# Altium footprint library RD.PcbLib: 4 footprints
Each footprint in its own frame and in the unit in brackets; x right, y up, seen from the top. Pads: shape width x height; smd on the part's side, far side on the other; paste and mask are expansions set on the pad; w line width, h text height; cw(c..) or ccw(c..) is an arc to the next point about the centre after c.
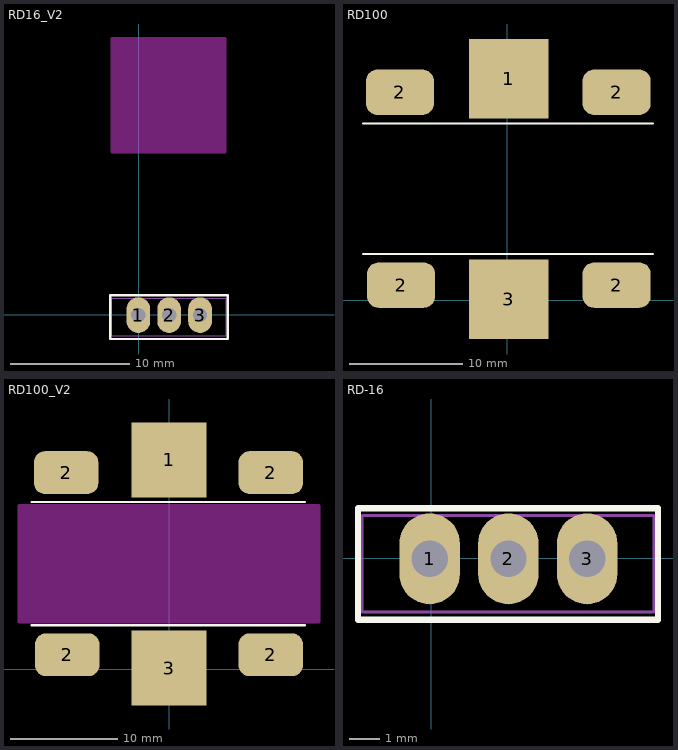
[diagram p0: the footprints below, top view; thin cyan lines are the x and y axes]

## RD16_V2 [mm]
pads (3):
  oval 2x3 hole 1.2: 1(-0.046,-0.02) 2(2.554,-0.02) 3(5.154,-0.02)
Top Overlay:
  lines w0.2: -2.413,-2.032 7.493,-2.032 7.493,1.651 -2.413,1.651 -2.413,-2.032
Keep-Out Layer:
  board cut-out: -2.25,23.25 7.25,23.25 7.25,13.75 -2.25,13.75
Keep-Out Layer:
  lines w0.3: -2.25,13.75 7.25,13.75 7.25,23.25 -2.25,23.25 -2.25,13.75
Mechanical 1:
  lines w0.1: -2.286,-1.778 -2.286,1.405 7.366,1.405 7.366,-1.778 -2.286,-1.778
3D body "RD16.STEP": height 1.19, standoff -6, extent -2.221,-0.305 7.279,23.305

## RD100 [mm]
pads (6):
  rect 7x7 smd: 1(0.135,19.512) 3(0.135,0.068)
  rrect50% 6x4 smd: 2(-9.465,18.318) 2(-9.365,1.318) 2(9.635,18.318) 2(9.635,1.318)
Top Overlay:
  lines w0.2: -12.69,4.068 12.81,4.068 ; -12.69,15.568 12.81,15.568
3D body "RD100.STEP": height 3.1, standoff -3.3, extent -12.365,-2.127 12.635,21.873

## RD100_V2 [mm]
pads (6):
  rect 7x7 smd: 1(0,19.544) 3(0,0.1)
  rrect50% 6x4 smd: 2(-9.6,18.35) 2(-9.5,1.35) 2(9.5,18.35) 2(9.5,1.35)
Top Overlay:
  lines w0.2: -12.825,4.1 12.675,4.1 ; -12.825,15.6 12.675,15.6
Keep-Out Layer:
  board cut-out: -14,15.25 14,15.25 14,4.395 -14,4.395
Keep-Out Layer:
  lines w0.3: -14,4.395 -14,15.25 14,15.25 14,4.395 -14,4.395
3D body "RD100.STEP": height 3.1, standoff -3.3, extent -12.5,-2.095 12.5,21.905

## RD-16 [mm]
pads (3):
  oval 2x3 hole 1.2: 1(-0.046,-0.02) 2(2.554,-0.02) 3(5.154,-0.02)
Top Overlay:
  lines w0.2: -2.413,-2.032 7.493,-2.032 7.493,1.651 -2.413,1.651 -2.413,-2.032
Mechanical 1:
  lines w0.1: -2.286,-1.778 -2.286,1.405 7.366,1.405 7.366,-1.778 -2.286,-1.778
3D body "RD16.STEP": height 1.19, standoff -6, extent -2.221,-0.305 7.279,23.305